# Altium schematic symbol library 0927_Library.SchLib: 16 symbols
Pins are listed as number, name and electrical type; pins without a type are passive.

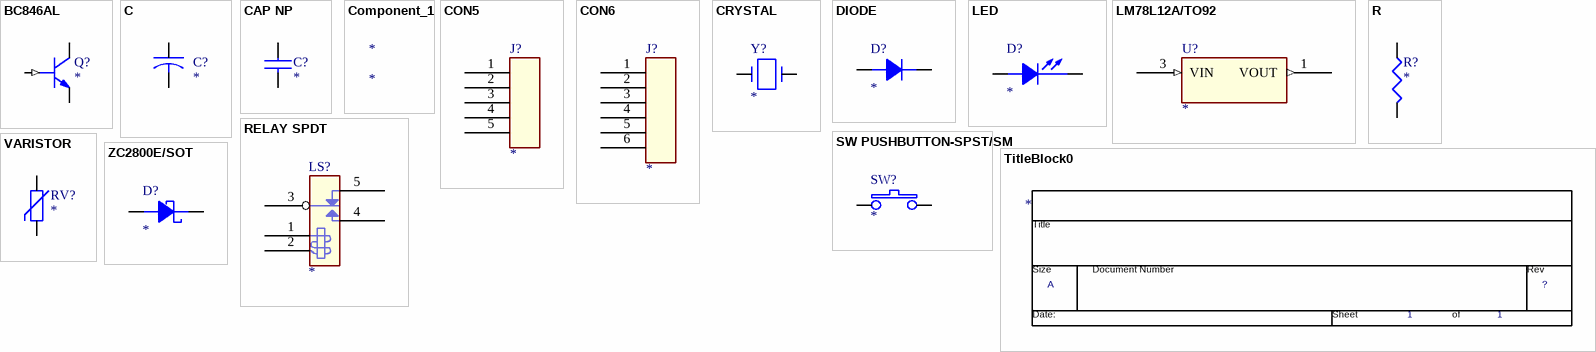
[diagram p0: symbols BC846AL to ZC2800E/SOT]

## BC846AL
designator Q?
pins: 1 BASE (in), 2 EMITTER, 3 COLLECTOR

## C
designator C?
pins: 1, 2

## CAP NP
designator C?
pins: 1, 2

## Component_1
designator *

## CON5
designator J?
pins: 1, 2, 3, 4, 5

## CON6
designator J?
pins: 1, 2, 3, 4, 5, 6

## CRYSTAL
designator Y?
pins: 1, 2

## DIODE
designator D?
pins: 1 A, 2 K

## LED
designator D?
pins: 1 ANODE, 2 CATHODE

## LM78L12A/TO92
designator U?
pins: 1 VOUT (out), 2 GND (power) hidden to GND, 3 VIN (in)

## R
designator R?
pins: 1, 2

## RELAY SPDT
designator LS?
pins: 1 COIL1, 2 COIL2, 3 COMMON, 4 NO, 5 NC

## SW PUSHBUTTON-SPST/SM
designator SW?
pins: 1, 2

## TitleBlock0
designator *  Page Count: 1  Page Size: A  (graphical)
Page Number: 1; RevCode: ?; Page Create Date: March  8, 1995
text: Title; Size; Document Number; Rev; Date:; Sheet; of

## VARISTOR
designator RV?
pins: 1, 2

## ZC2800E/SOT
designator D?
pins: 1 CATHODE, 3 ANODE